# Altium footprint library can_10_1.PcbLib: 1 footprints
Each footprint in its own frame and in the unit in brackets; x right, y up, seen from the top. Pads: shape width x height; smd on the part's side, far side on the other; paste and mask are expansions set on the pad; w line width, h text height; cw(c..) or ccw(c..) is an arc to the next point about the centre after c.
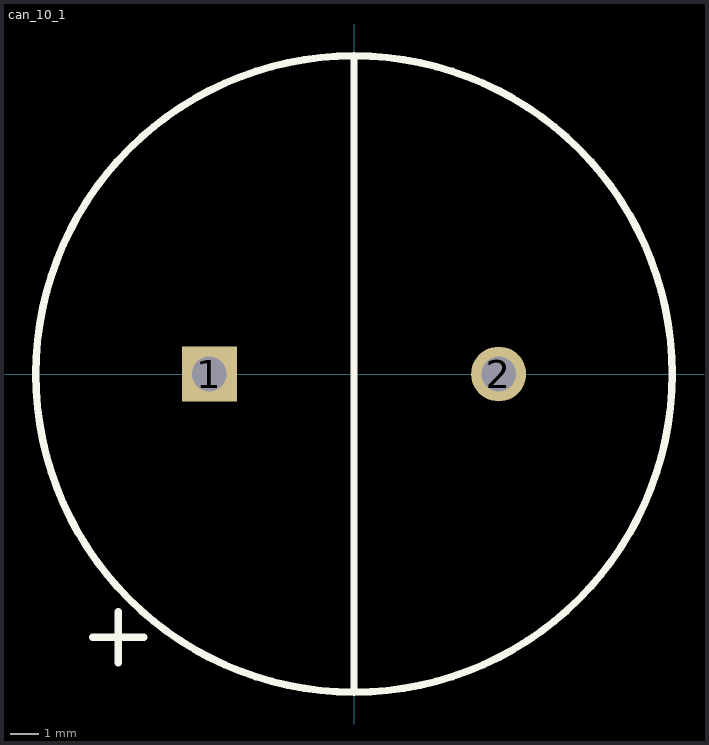
[diagram p0: the footprint, top view; thin cyan lines are the x and y axes]

## can_10_1 [mm] "2 Leaded Al Cap, 10mm spacing, 22mm diameter"
height 20
pads (2):
  rect 1.9x1.9 hole 1.2: 1(-5,0)
  round 1.9 hole 1.2: 2(5,0)
Top Overlay:
  lines w0.25: 0,-11 0,11
  lines w0.254: -9.039,-9.1 -7.261,-9.1 ; -8.15,-9.989 -8.15,-8.211 ; 0,-11 cw(c0,0) 0,11 cw(c0,0) 0,-11
3D body: height 22, standoff 0, extent -11,-10.997 11,10.997